# Altium footprint library PCB - CONNECTOR - MOLEX - MOLEX 0559350510.PcbLib: 1 footprints
Each footprint in its own frame and in the unit in brackets; x right, y up, seen from the top. Pads: shape width x height; smd on the part's side, far side on the other; paste and mask are expansions set on the pad; w line width, h text height; cw(c..) or ccw(c..) is an arc to the next point about the centre after c.
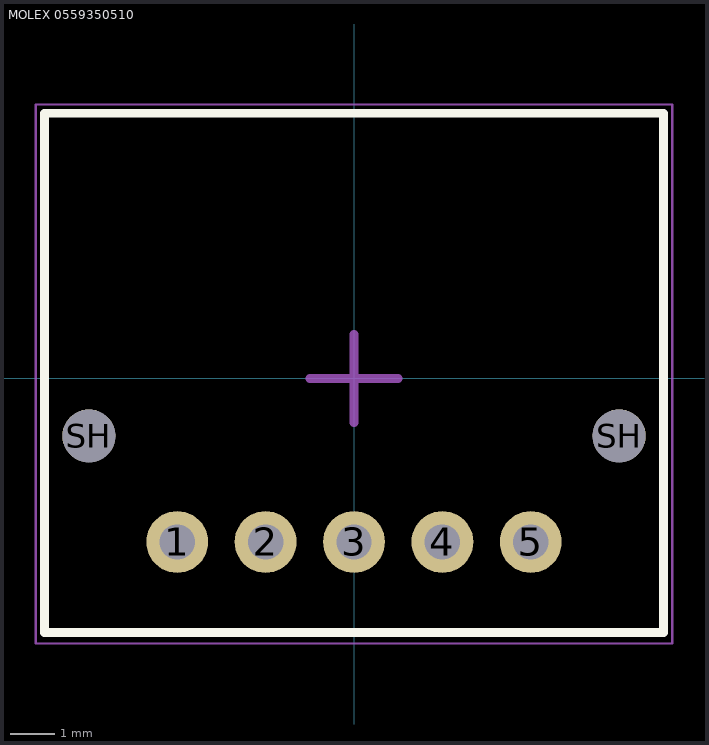
[diagram p0: the footprint, top view; thin cyan lines are the x and y axes]

## MOLEX 0559350510 [mm] "Connector Header Through Hole, Right Angle 5 position, 2mm Pitch, 11.75x14.00 mm Body"
height 6.9
pads (7):
  round 1.4 hole 0.8: 1(-4,-3.7) 2(-2,-3.7) 3(0,-3.7) 4(2,-3.7) 5(4,-3.7)
  round 1.2 hole 1.2: SH(-6,-1.3) SH(6,-1.3)
Top Overlay:
  lines w0.2: -7,-5.75 -7,6 7,6 7,-5.75 -7,-5.75
Mechanical 13:
  lines w0.1: -7,-5.75 7,-5.75 7,6 -7,6 -7,-5.75
Mechanical 15 (Mech15):
  lines w0.05: -7.2,-6 7.2,-6 7.2,6.2 -7.2,6.2 -7.2,-6
  lines w0.2: -1,0 0,0 ; 0,-1 0,0 ; 0,1 0,0 ; 1,0 0,0
3D body: height 6.7, standoff -3.2, extent -7,-5.75 7,6